# EAGLE library part ROTARY_ENCODER (library lib)
Rotary Encoder Encoders ROTARY ENCODER W/BALL SPRING
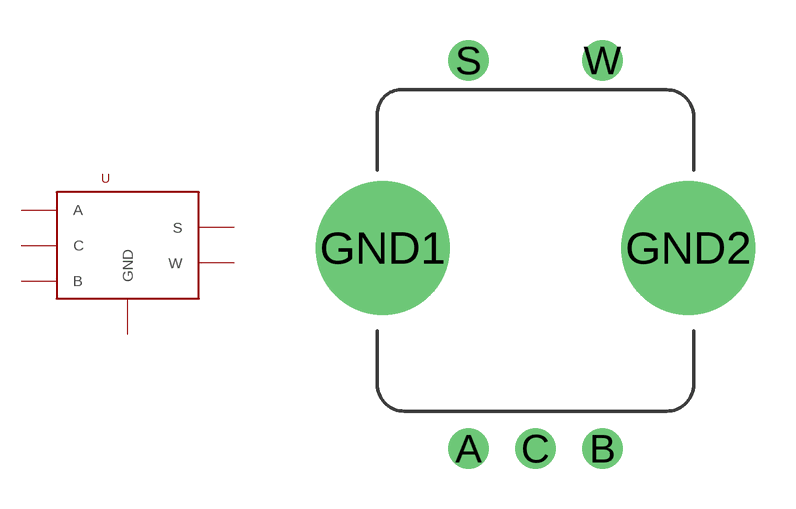
[diagram p7: symbol with the pads of ENCODER_PEC11H-4220F; footprint ENCODER_PEC11H-4220F]

Designator prefix U

## ROTARY_ENCODER (LINK: https://eu.mouser.com/ProductDetail/Bourns/PEC11H-4220F-S0024/?qs=7MVldsJ5UayW2mw8xYm74g%3D%3D; MPN: PEC11H-4220F-S0024; SUPPLIER: Mouser)  [ENCODER_PEC11H-4220F]
A  A  in
B  B  in
C  C  out
GND1  GND  pwr
GND2  GND  pwr
S  S
W  W

## Footprint ENCODER_PEC11H-4220F (pad centres in mm)
drill 1: A -2.5,-7.5; B 2.5,-7.5; C 0,-7.5; S -2.5,7; W 2.5,7
drill 2.6 pad 5: GND1 -5.7,0; GND2 5.7,0